# Altium integrated library AC0402FR-075K1L.IntLib: 1 symbol
Pins are listed as number, name and electrical type; pins without a type are passive.

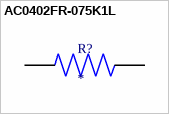
[diagram p0: symbol AC0402FR-075K1L]

## AC0402FR-075K1L
designator R?
5.1 kOhms Â±1% 0.063W, 1/16W Chip Resistor 0402 (1005 Metric) Automotive AEC-Q200, Moisture Resistant Thick Film; MF: Yageo; MP: AC0402FR-075K1L; SnapEDA_Link: https://www.snapeda.com/parts/AC0402FR-075K1L/Yageo/view-part/?ref=snap; Package: 1005 Yageo; Value: *; Check_prices: https://www.snapeda.com/parts/AC0402FR-075K1L/Yageo/view-part/?ref=eda
footprint RESC1005X37N
pins: 1, 2